# Altium footprint library PcbLib1.PcbLib: 36 footprints (part 2 of 3)
Each footprint in its own frame and in the unit in brackets; x right, y up, seen from the top. Pads: shape width x height; smd on the part's side, far side on the other; paste and mask are expansions set on the pad; w line width, h text height; cw(c..) or ccw(c..) is an arc to the next point about the centre after c.
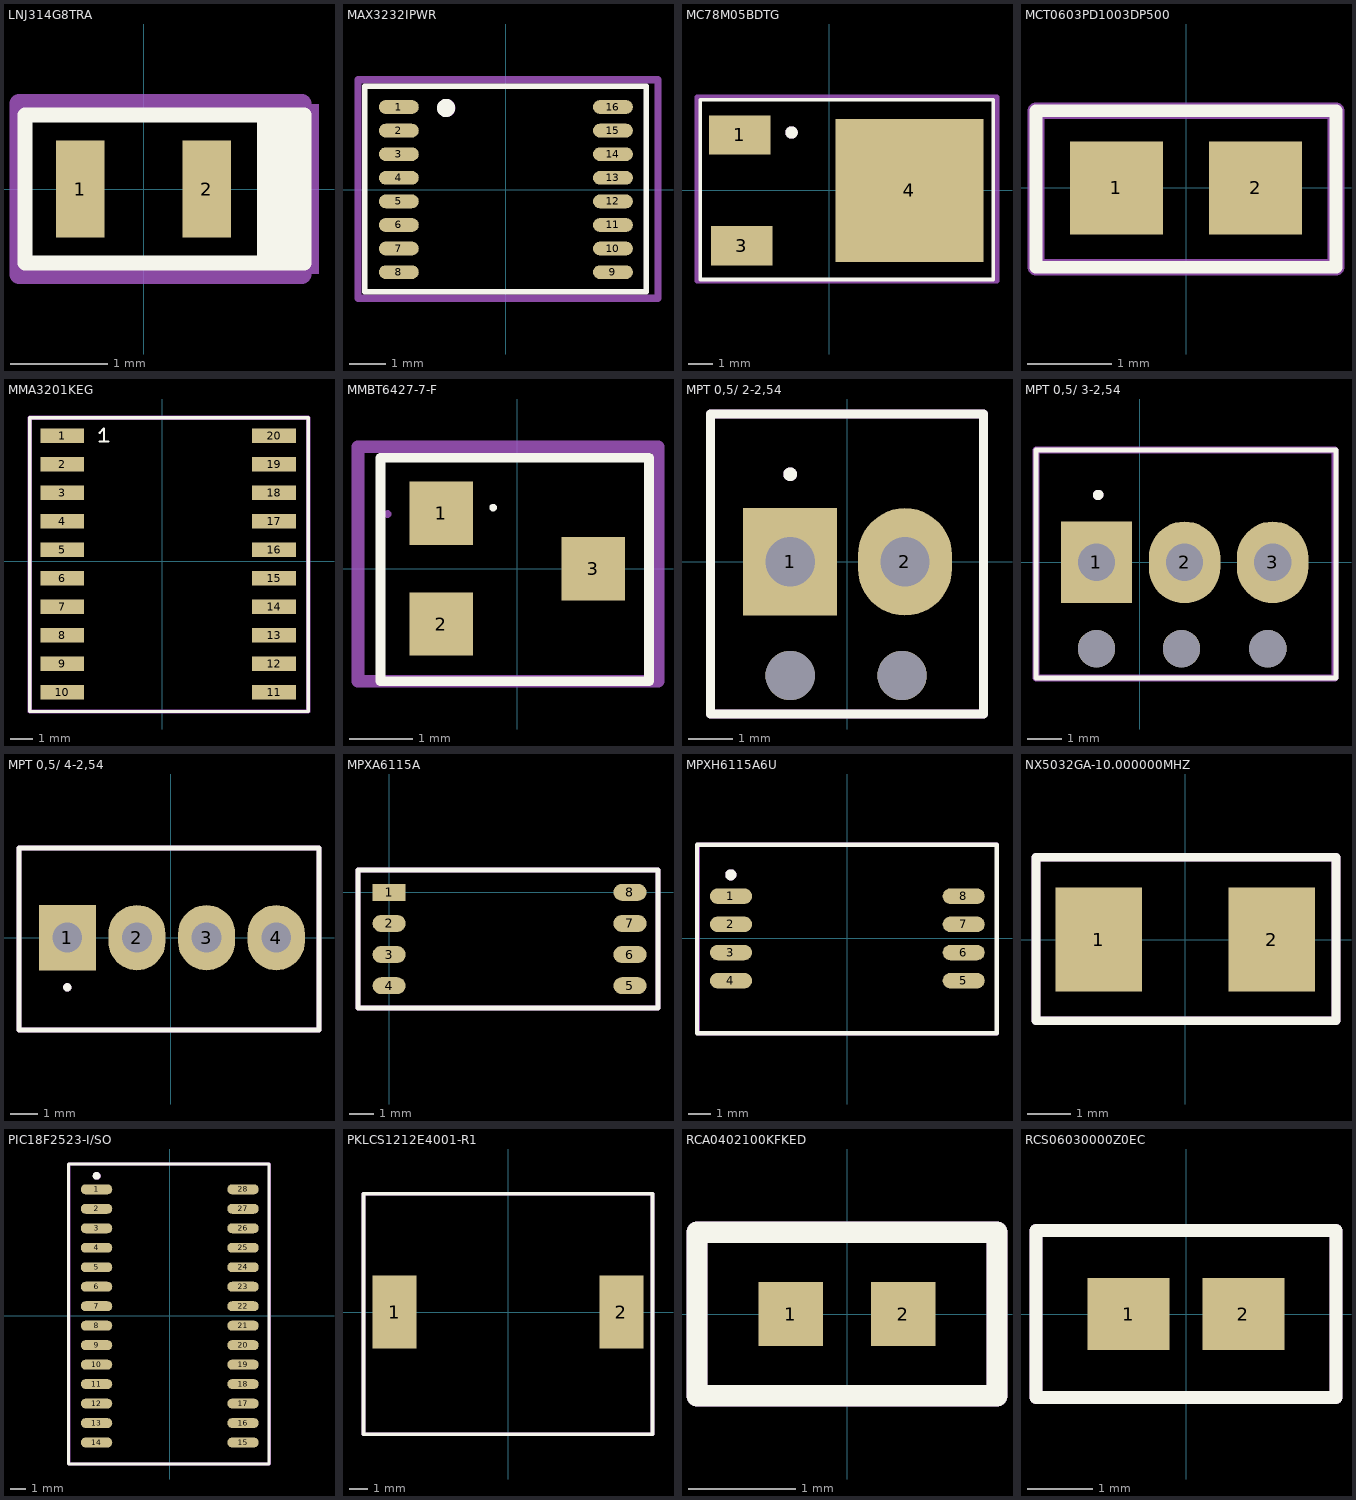
[diagram p1: the footprints below, top view; thin cyan lines are the x and y axes]

## LNJ314G8TRA [mm]
pads (2):
  rect 0.5x1 smd: 1(-0.65,0) 2(0.65,0)
Top Overlay:
  rectangle: 1.168,-0.762 1.651,0.787
  lines w0.152: -1.219,-0.762 1.651,-0.762 1.651,0.762 -1.219,0.762 -1.219,-0.762
Mechanical 29:
  rectangle: 1.228,-0.875 1.803,0.875
  lines w0.2: -1.281,-0.875 1.625,-0.875 1.625,0.875 -1.281,0.875 -1.281,-0.875
  text "'.Designator'" at -1.17,-0.175 h0.7
3D body "LED_LNJ314_PAN.step": height 0.51, standoff 0, extent -0.876,-0.47 0.876,0.47

## MAX3232IPWR [mm] "TSOP, 16-Leads, Body 5,00x4,40mm, Pitch 0,65mm, IPC Medium Density"
height 1.2
pads (16):
  oval 1.1x0.38 smd: 1(-2.95,2.275) 2(-2.95,1.625) 3(-2.95,0.975) 4(-2.95,0.325) 5(-2.95,-0.325) 6(-2.95,-0.975) 7(-2.95,-1.625) 8(-2.95,-2.275) 9(2.95,-2.275) 10(2.95,-1.625) 11(2.95,-0.975) 12(2.95,-0.325) 13(2.95,0.325) 14(2.95,0.975) 15(2.95,1.625) 16(2.95,2.275)
Top Overlay:
  circle w0.25: c-1.65,2.25 r0.125
  lines w0.152: -3.886,-2.819 -3.886,2.845 3.861,2.845 3.861,-2.819 -3.886,-2.819
Mechanical 29:
  circle w0.25: c-1.644,2.249 r0.125
  lines w0.2: -4.075,-2.992 -4.075,3.025 4.191,3.025 4.191,-2.992 -4.075,-2.992
  text "'.Designator'" at -4.025,0.133 h0.7
3D body "PW0016A.stp": height 1.13, standoff 0, extent -3.2,-2.5 3.2,2.5

## MC78M05BDTG [mm] "D-PAK, 3-Pads, Body 6,21x6,73mm (max), IPC Low Density"
height 2.38
pads (3):
  rect 2.5x1.6 smd: 1(-3.627,2.25) 3(-3.552,-2.25)
  rect 6x5.8 smd: 4(3.251,0)
Top Overlay:
  circle w0.25: c-1.523,2.351 r0.125
  lines w0.152: -5.232,-3.607 6.655,-3.607 6.655,3.683 -5.232,3.683 -5.232,-3.607
Mechanical 29:
  circle w0.25: c-1.523,2.351 r0.125
  lines w0.2: -5.359,-3.683 -5.359,3.801 6.807,3.801 6.807,-3.683 -5.359,-3.683
  text "'.Designator'" at -3.473,-0.066 h0.7
3D body "DPAK-3_ONS.step": height 1.7, standoff -0.05, extent -4.052,-3.341 6.365,3.391

## MCT0603PD1003DP500 [mm]
pads (2):
  rect 1.1x1.1 smd: 1(-0.825,0) 2(0.825,0)
Top Overlay:
  lines w0.152: -1.778,-0.94 1.778,-0.94 1.778,0.914 -1.778,0.914 -1.778,-0.94
Mechanical 29:
  lines w0.2: -1.778,-0.94 1.778,-0.94 1.778,0.914 -1.778,0.914 -1.778,-0.94
  text "'.Designator'" at -1.678,-0.429 h0.7
3D body "MCT0603PD1003DP500.STEP": height 0.55, standoff 0, extent -0.775,-0.425 0.775,0.425

## MMA3201KEG [mm]
pads (20):
  rect 1.95x0.65 smd: 1(-4.471,5.588) 2(-4.471,4.318) 3(-4.471,3.048) 4(-4.471,1.778) 5(-4.471,0.508) 6(-4.471,-0.762) 7(-4.471,-2.032) 8(-4.471,-3.302) 9(-4.471,-4.572) 10(-4.471,-5.842) 11(4.979,-5.842) 12(4.979,-4.572) 13(4.979,-3.302) 14(4.979,-2.032) 15(4.979,-0.762) 16(4.979,0.508) 17(4.979,1.778) 18(4.979,3.048) 19(4.979,4.318) 20(4.979,5.588)
Top Overlay:
  lines w0.1: -2.794,5.334 -2.413,5.334 ; -2.794,5.727 -2.61,5.912 -2.61,5.342
  lines w0.152: -5.918,-6.706 6.502,-6.706 6.502,6.401 -5.918,6.401 -5.918,-6.706
Mechanical 29:
  lines w0.2: -5.918,6.401 6.502,6.401 6.502,-6.706 -5.915,-6.706 -5.915,6.401
  text "'.Designator'" at -3.837,1.984 h0.7
3D body "MMA3201KEG.stp": height 3.55, standoff 0, extent -5.208,-6.535 5.208,6.281

## MMBT6427-7-F [mm] "SOT223, 3-Leads, Body 2,90x2,36mm (avg), Pitch 1,75mm, IPC Medium Density"
height 1.1
pads (3):
  rect 1x1 smd: 1(-1.2,0.875) 2(-1.2,-0.875) 3(1.2,0)
Top Overlay:
  circle w0.1: c-0.381,0.965 r0.01
  lines w0.152: -2.159,-1.778 2.083,-1.778 2.083,1.753 -2.159,1.753 -2.159,-1.778
Mechanical 29:
  circle w0.1: c-2.047,0.864 r0.01
  lines w0.2: -2.515,-1.778 2.225,-1.778 2.225,1.926 -2.515,1.926 -2.515,-1.778
  text "'.Designator'" at -2.225,-0.017 h0.7
3D body "MMBT6427LT1G.stp": height 1.11, standoff 0, extent -1.185,-1.46 1.185,1.46

## MPT 0,5/ 2-2,54 [mm]
pads (4):
  rect 2.1x2.4 hole 1.1: 1(-1.27,0)
  oval 2.1x2.4 hole 1.1: 2(1.295,0)
  round 1.1 hole 1.1: ""(-1.27,-2.54) ""(1.23,-2.54)
Top Overlay:
  circle w0.254: c-1.27,1.956 r0.025
  lines w0.2: -3.048,-3.4 3.048,-3.4 3.048,3.302 -3.048,3.302 -3.048,-3.4
Mechanical 29:
  circle w0.254: c-1.27,1.956 r0.025
  lines w0.2: -3.048,-3.4 3.048,-3.4 3.048,3.302 -3.048,3.302 -3.048,-3.4
  text "'.Designator'" at -2.44,1.73 h0.7
3D body "pxc_1725656_09_03_MPT-0-5-2-2-54_3D.stp": height 8.5, standoff -3.5, extent -2.8,-3.175 2.8,3.025

## MPT 0,5/ 3-2,54 [mm]
pads (6):
  rect 2.1x2.4 hole 1.1: 1(-1.27,0)
  oval 2.1x2.4 hole 1.1: 2(1.321,0) 3(3.912,0)
  round 1.1 hole 1.1: ""(-1.27,-2.54) ""(1.23,-2.54) ""(3.77,-2.54)
Top Overlay:
  circle w0.254: c-1.219,1.981 r0.025
  lines w0.152: -3.048,-3.4 -3.048,3.302 5.775,3.302 5.775,-3.4 -3.048,-3.4
Mechanical 29:
  circle w0.254: c-1.219,1.981 r0.025
  lines w0.2: -3.048,-3.4 -3.048,3.302 5.75,3.302 5.75,-3.4 -3.048,-3.4
  text "'.Designator'" at -2.44,1.73 h0.7
3D body "pxc_1725669_09_03_MPT-0-5-3-2-54_3D.stp": height 8.5, standoff -3.5, extent -2.806,-3.048 5.334,3.152

## MPT 0,5/ 4-2,54 [mm]
pads (4):
  rect 2.1x2.4 hole 1.1: 1(-3.81,0)
  oval 2.1x2.4 hole 1.1: 2(-1.245,0) 3(1.321,0) 4(3.886,0)
Top Overlay:
  circle w0.254: c-3.81,-1.829 r0.025
  lines w0.2: -5.588,-3.4 5.461,-3.4 5.461,3.302 -5.588,3.302 -5.588,-3.4
Mechanical 29:
  circle w0.254: c-3.81,-1.829 r0.025
  lines w0.2: -5.588,-3.4 5.461,-3.4 5.461,3.302 -5.588,3.302 -5.588,-3.4
  text "'.Designator'" at -4.98,1.73 h0.7
3D body "pxc_1725672_09_02_MPT-0-5-4-2-54_3D.stp": height 8.51, standoff -3.49, extent -5.416,-3.124 5.264,3.076

## MPXA6115A [mm]
pads (8):
  rect 1.35x0.69 smd: 1(0,0)
  oval 1.35x0.69 smd: 2(0,-1.27) 3(0,-2.54) 4(0,-3.81) 5(9.83,-3.81) 6(9.83,-2.54) 7(9.83,-1.27) 8(9.83,0)
Top Overlay:
  lines w0.2: -1.27,-4.724 -1.27,0.914 10.973,0.914 10.973,-4.724 -1.27,-4.724
Mechanical 29:
  lines w0.2: -1.27,-4.724 -1.27,0.914 10.973,0.914 10.973,-4.724 -1.27,-4.724
  text "'.Designator'" at 0.786,-2.258 h0.7

## MPXH6115A6U [mm] "SOP, 8-Leads, Body 7,37x7,37mm, Pitch 1,27mm, IPC Medium Density"
height 4.45
pads (8):
  oval 1.9x0.7 smd: 1(-5.25,1.905) 2(-5.25,0.635) 3(-5.25,-0.635) 4(-5.25,-1.905) 5(5.25,-1.905) 6(5.25,-0.635) 7(5.25,0.635) 8(5.25,1.905)
Top Overlay:
  circle w0.25: c-5.258,2.87 r0.125
  lines w0.2: -6.782,-4.267 -6.782,4.216 6.731,4.216 6.731,-4.267 -6.782,-4.267
Mechanical 29:
  circle w0.25: c-5.258,2.87 r0.125
  lines w0.2: -6.756,-4.267 -6.756,4.216 6.75,4.216 6.75,-4.267 -6.756,-4.267
  text "'.Designator'" at -3.761,-0.099 h0.7
3D body "MPXH6115A.STEP": height 4.8, standoff -0.03, extent -5.895,-3.81 5.895,3.81

## NX5032GA-10.000000MHZ [mm]
pads (2):
  rect 2x2.4 smd: 1(-2,0) 2(2,0)
Top Overlay:
  lines w0.2: -3.454,-1.88 3.48,-1.88 3.48,1.905 -3.454,1.905 -3.454,-1.88
Mechanical 29:
  lines w0.2: -3.454,-1.88 3.48,-1.88 3.48,1.905 -3.454,1.905 -3.454,-1.88
  text "'.Designator'" at -3.989,-0.022 h0.7
3D body "NX5032GA-16.000M-LN-CD-1.stp": height 1.6, standoff 0, extent -2.8,-1.6 2.8,1.6

## PIC18F2523-I/SO [mm] "SOIC, 28-Leads, Body 17,90x7,50mm, Pitch 1,27mm, IPC Low Density"
height 2.65
pads (28):
  oval 2.05x0.65 smd: 1(-4.775,8.255) 2(-4.775,6.985) 3(-4.775,5.715) 4(-4.775,4.445) 5(-4.775,3.175) 6(-4.775,1.905) 7(-4.775,0.635) 8(-4.775,-0.635) 9(-4.775,-1.905) 10(-4.775,-3.175) 11(-4.775,-4.445) 12(-4.775,-5.715) 13(-4.775,-6.985) 14(-4.775,-8.255) 15(4.775,-8.255) 16(4.775,-6.985) 17(4.775,-5.715) 18(4.775,-4.445) 19(4.775,-3.175) 20(4.775,-1.905) 21(4.775,-0.635) 22(4.775,0.635) 23(4.775,1.905) 24(4.775,3.175) 25(4.775,4.445) 26(4.775,5.715) 27(4.775,6.985) 28(4.775,8.255)
Top Overlay:
  circle w0.25: c-4.775,9.13 r0.125
  lines w0.2: -6.604,-9.652 -6.604,9.906 6.477,9.906 6.477,-9.652 -6.604,-9.652
Mechanical 29:
  circle w0.25: c-4.75,9.129 r0.125
  lines w0.2: -6.579,-9.653 -6.579,9.905 6.502,9.905 6.502,-9.653 -6.579,-9.653
  text "'.Designator'" at -3.71,4.524 h0.7
3D body "SOIC28-W_MC_MCH.step": height 2.64, standoff 0, extent -5.156,-8.954 5.156,8.954

## PKLCS1212E4001-R1 [mm]
pads (2):
  rect 2.4x4 smd: 1(-6.2,0) 2(6.2,0)
Top Overlay:
  lines w0.2: -7.9,-6.68 7.9,-6.68 7.9,6.477 -7.9,6.477 -7.9,0 -7.9,-6.68
Mechanical 29:
  lines w0.2: -7.899,-6.68 7.901,-6.68 7.901,6.477 -7.899,6.477 -7.899,0 -7.899,-6.68
  text ".Designator" at -5.794,-4.76 h1.2
3D body "PKLCS1212E4001-R1.stp": height 3.01, standoff 0.01, extent -6.025,-5.975 5.975,6.025

## RCA0402100KFKED [mm]
pads (2):
  rect 0.6x0.6 smd: 1(-0.525,0) 2(0.525,0)
Top Overlay:
  lines w0.2: -1.397,-0.762 -1.397,0.762 1.397,0.762 1.397,-0.762 -1.397,-0.762
Mechanical 29:
  lines w0.2: -1.397,-0.762 -1.397,0.762 1.397,0.762 1.397,-0.762 -1.397,-0.762
  text "'.Designator'" at -1.17,-0.302 h0.7
3D body "RES_RCA0402_VIS.step": height 0.41, standoff 0, extent -0.521,-0.279 0.521,0.279

## RCS06030000Z0EC [mm]
pads (2):
  rect 1.25x1.1 smd: 1(-0.875,0) 2(0.875,0)
Top Overlay:
  lines w0.2: -2.286,-1.27 -2.286,1.27 2.286,1.27 2.286,-1.27 -2.286,-1.27
Mechanical 29:
  lines w0.2: -2.286,-1.27 -2.286,1.27 2.286,1.27 2.286,-1.27 -2.286,-1.27
  text "'.Designator'" at -1.932,-0.175 h0.7
3D body "RES_HCJ0603_STP.step": height 0.71, standoff 0, extent -0.927,-0.521 0.927,0.521